# EAGLE library part N5150 (library N5)
Based on Nordic Semiconductor’s nRF51422 SoC, the N5 ANT SoC module series offers support for both ANT® and Bluetooth® low energy and enables both protocols to run concurrently, depending on the loaded protocol stack.
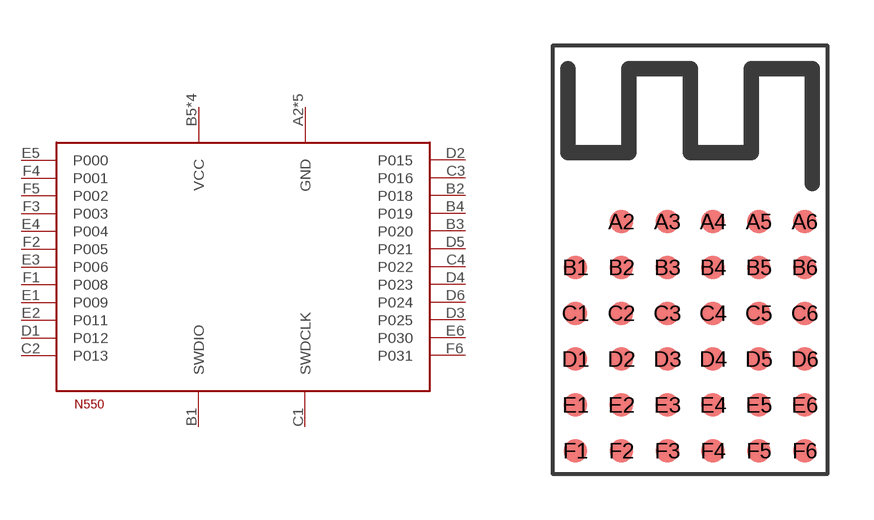
[diagram p1: symbol with the pads of N5150; footprint N5150]

Designator prefix U

## N5150  [N5150]
A2  GND
A3  GND
A4  GND
A5  GND
A6  GND
B1  SWDIO
B2  P018
B3  P020
B4  P019
B5  VCC
B6  VCC
C1  SWDCLK
C2  P013
C3  P016
C4  P022
C5  VCC
C6  VCC
D1  P012
D2  P015
D3  P025
D4  P023
D5  P021
D6  P024
E1  P009
E2  P011
E3  P006
E4  P004
E5  P000
E6  P030
F1  P008
F2  P005
F3  P003
F4  P001
F5  P002
F6  P031

## Footprint N5150 (pad centres in mm)
smd 0.762 x 0.762: A2 -6.12,0; A3 -4.62,0; A4 -3.12,0; A5 -1.62,0; A6 -0.12,0; B1 -7.62,-1.5; B2 -6.12,-1.5; B3 -4.62,-1.5; B4 -3.12,-1.5; B5 -1.62,-1.5; B6 -0.12,-1.5; C1 -7.62,-3; C2 -6.12,-3; C3 -4.62,-3; C4 -3.12,-3; C5 -1.62,-3; C6 -0.12,-3; D1 -7.62,-4.5; D2 -6.12,-4.5; D3 -4.62,-4.5; D4 -3.12,-4.5; D5 -1.62,-4.5; D6 -0.12,-4.5; E1 -7.62,-6; E2 -6.12,-6; E3 -4.62,-6; E4 -3.12,-6; E5 -1.62,-6; E6 -0.12,-6; F1 -7.62,-7.5; F2 -6.12,-7.5; F3 -4.62,-7.5; F4 -3.12,-7.5; F5 -1.62,-7.5; F6 -0.12,-7.5